# EAGLE library part ADAFRUIT_FEATHER_32U4_RFM (library Adafruit Feather 32u4 RFM)
Adafruit Feather 32u4 RFM
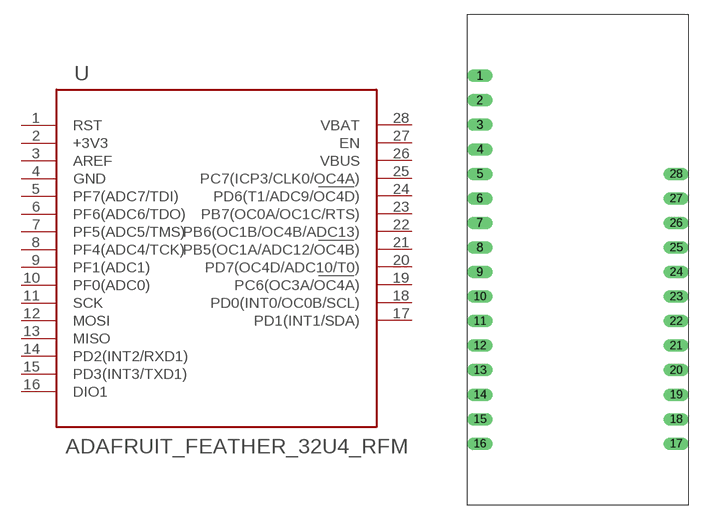
[diagram p0: symbol with the pads of ADAFRUIT_FEATHER_32U4_RFM; footprint ADAFRUIT_FEATHER_32U4_RFM]

Designator prefix -

## ADAFRUIT_FEATHER_32U4_RFM  [ADAFRUIT_FEATHER_32U4_RFM]
1  RST
2  +3V3
3  AREF
4  GND
5  PF7(ADC7/TDI)
6  PF6(ADC6/TDO)
7  PF5(ADC5/TMS)
8  PF4(ADC4/TCK)
9  PF1(ADC1)
10  PF0(ADC0)
11  SCK
12  MOSI
13  MISO
14  PD2(INT2/RXD1)
15  PD3(INT3/TXD1)
16  DIO1
17  PD1(INT1/SDA)
18  PD0(INT0/OC0B/SCL)
19  PC6(OC3A/OC4A)
20  PD7(OC4D/ADC10/T0)
21  PB5(OC1A/ADC12/OC4B)
22  PB6(OC1B/OC4B/ADC13)
23  PB7(OC0A/OC1C/RTS)
24  PD6(T1/ADC9/OC4D)
25  PC7(ICP3/CLK0/OC4A)
26  VBUS
27  EN
28  VBAT

## Footprint ADAFRUIT_FEATHER_32U4_RFM (pad centres in mm)
drill 0.8 long: 1 -10.16,20.32; 2 -10.16,17.78; 3 -10.16,15.24; 4 -10.16,12.7; 5 -10.16,10.16; 6 -10.16,7.62; 7 -10.16,5.08; 8 -10.16,2.54; 9 -10.16,0; 10 -10.16,-2.54; 11 -10.16,-5.08; 12 -10.16,-7.62; 13 -10.16,-10.16; 14 -10.16,-12.7; 15 -10.16,-15.24; 16 -10.16,-17.78; 17 10.16,-17.78; 18 10.16,-15.24; 19 10.16,-12.7; 20 10.16,-10.16; 21 10.16,-7.62; 22 10.16,-5.08; 23 10.16,-2.54; 24 10.16,0; 25 10.16,2.54; 26 10.16,5.08; 27 10.16,7.62; 28 10.16,10.16